# EAGLE library part NRF8001 (library microbuilder)
nRF8001 - Bluetooth Low-Energy Transceiver VDD: 1.9-3.6V Temp: -40°C - 85°C
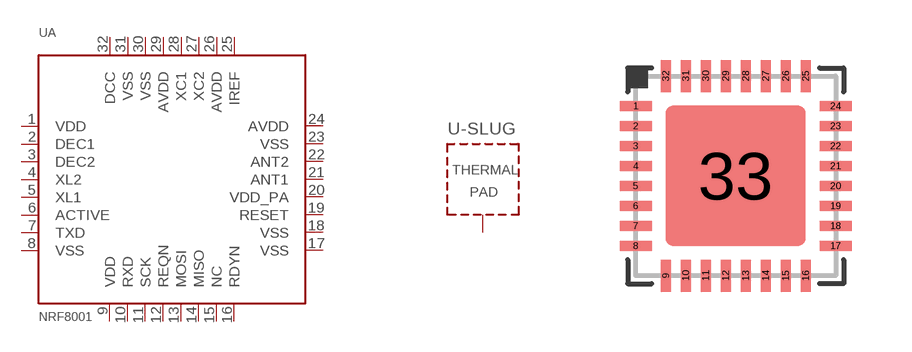
[diagram p210: symbol with the pads of QFN32_5MM; footprint QFN32_5MM]

Designator prefix U; gates A=NRF8001 -SLUG=THERMAL-SLUG

## NRF8001  [QFN32_5MM]
1  A:VDD  pwr
2  A:DEC1
3  A:DEC2
4  A:XL2  out
5  A:XL1  in
6  A:ACTIVE  out
7  A:TXD  out
8  A:VSS  pwr
9  A:VDD  pwr
10  A:RXD  in
11  A:SCK  in
12  A:REQN  in
13  A:MOSI  in
14  A:MISO  out
15  A:NC  nc
16  A:RDYN  out
17  A:VSS  pwr
18  A:VSS  pwr
19  A:RESET  in
20  A:VDD_PA
21  A:ANT1
22  A:ANT2
23  A:VSS  pwr
24  A:AVDD  pwr
25  A:IREF  out
26  A:AVDD  pwr
27  A:XC2  out
28  A:XC1  in
29  A:AVDD  pwr
30  A:VSS  pwr
31  A:VSS  pwr
32  A:DCC
33  -SLUG:TP  pwr

## Footprint QFN32_5MM (pad centres in mm)
QFN32 5x5mm 0.5mm pitch Source: Nordic nRF8001 Product Specification
smd 0.8 x 0.25: 1 -2.5,1.75; 2 -2.5,1.25; 3 -2.5,0.75; 4 -2.5,0.25; 5 -2.5,-0.25; 6 -2.5,-0.75; 7 -2.5,-1.25; 8 -2.5,-1.75; 17 2.5,-1.75; 18 2.5,-1.25; 19 2.5,-0.75; 20 2.5,-0.25; 21 2.5,0.25; 22 2.5,0.75; 23 2.5,1.25; 24 2.5,1.75
smd 0.25 x 0.8: 9 -1.75,-2.5; 10 -1.25,-2.5; 11 -0.75,-2.5; 12 -0.25,-2.5; 13 0.25,-2.5; 14 0.75,-2.5; 15 1.25,-2.5; 16 1.75,-2.5; 25 1.75,2.5; 26 1.25,2.5; 27 0.75,2.5; 28 0.25,2.5; 29 -0.25,2.5; 30 -0.75,2.5; 31 -1.25,2.5; 32 -1.75,2.5
smd 3.5 x 3.5: 33 0,0